# Altium integrated library Passive Components.IntLib: 149 symbols (part 1 of 2)
Pins are listed as number, name and electrical type; pins without a type are passive.

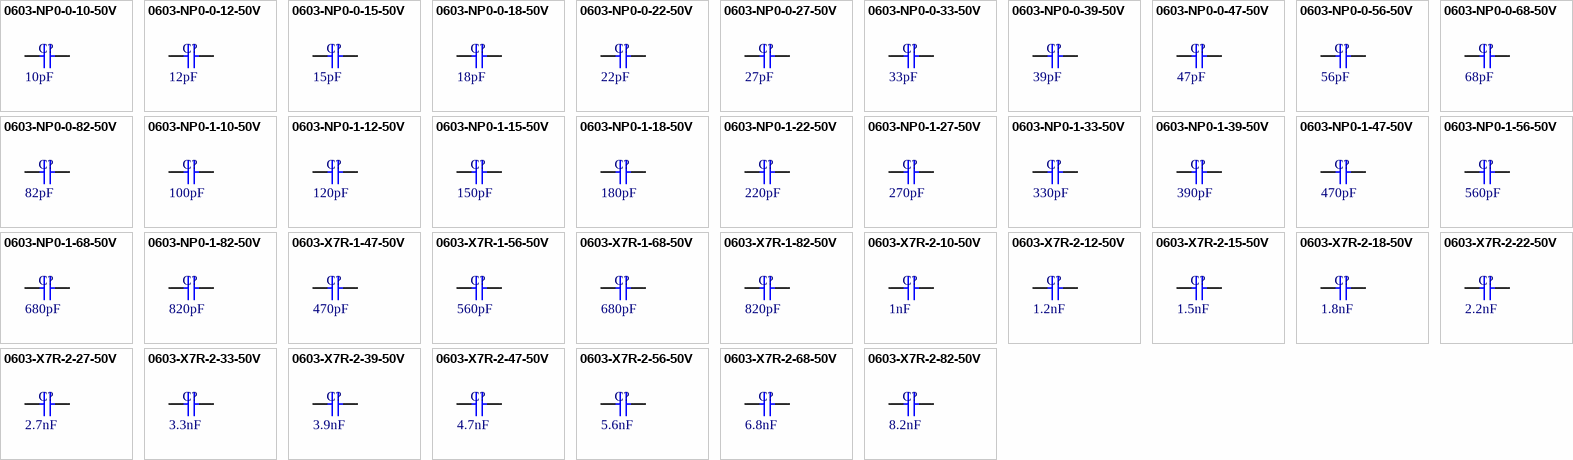
[diagram p0: symbols 0603-NP0-0-10-50V to 0603-X7R-2-82-50V]

## 0603-NP0-0-10-50V
designator C?, comment value 10pF  (hidden comment: Cap Ceramic)
CAP, CER, 0603, 10pF, 50V, NP0, 5%; ReferencePart: VJ0603A100JXACW1BC; Voltage: 50V
footprint CAP 0603_N (Chip Capacitor, Body 1.6x0.8mm, Height 0.55mm, IPC Medium Density)
footprint CAP 0603_L (Chip Capacitor, Body 1.6x0.8mm, Height 0.55mm, IPC High Density)
pins: 1, 2

## 0603-NP0-0-12-50V
designator C?, comment value 12pF  (hidden comment: Cap Ceramic)
CAP, CER, 0603, 12pF, 50V, NP0, 5%; ReferencePart: VJ0603A120JXACW1BC; Voltage: 50V
footprint CAP 0603_N (Chip Capacitor, Body 1.6x0.8mm, Height 0.55mm, IPC Medium Density)
footprint CAP 0603_L (Chip Capacitor, Body 1.6x0.8mm, Height 0.55mm, IPC High Density)
pins: 1, 2

## 0603-NP0-0-15-50V
designator C?, comment value 15pF  (hidden comment: Cap Ceramic)
CAP, CER, 0603, 15pF, 50V, NP0, 5%; ReferencePart: VJ0603A150JXACW1BC; Voltage: 50V
footprint CAP 0603_N (Chip Capacitor, Body 1.6x0.8mm, Height 0.55mm, IPC Medium Density)
footprint CAP 0603_L (Chip Capacitor, Body 1.6x0.8mm, Height 0.55mm, IPC High Density)
pins: 1, 2

## 0603-NP0-0-18-50V
designator C?, comment value 18pF  (hidden comment: Cap Ceramic)
CAP, CER, 0603, 18pF, 50V, NP0, 5%; ReferencePart: VJ0603A180JXACW1BC; Voltage: 50V
footprint CAP 0603_N (Chip Capacitor, Body 1.6x0.8mm, Height 0.55mm, IPC Medium Density)
footprint CAP 0603_L (Chip Capacitor, Body 1.6x0.8mm, Height 0.55mm, IPC High Density)
pins: 1, 2

## 0603-NP0-0-22-50V
designator C?, comment value 22pF  (hidden comment: Cap Ceramic)
CAP, CER, 0603, 22pF, 50V, NP0, 5%; ReferencePart: VJ0603A220JXACW1BC; Voltage: 50V
footprint CAP 0603_N (Chip Capacitor, Body 1.6x0.8mm, Height 0.55mm, IPC Medium Density)
footprint CAP 0603_L (Chip Capacitor, Body 1.6x0.8mm, Height 0.55mm, IPC High Density)
pins: 1, 2

## 0603-NP0-0-27-50V
designator C?, comment value 27pF  (hidden comment: Cap Ceramic)
CAP, CER, 0603, 27pF, 50V, NP0, 5%; ReferencePart: VJ0603A270JXACW1BC; Voltage: 50V
footprint CAP 0603_N (Chip Capacitor, Body 1.6x0.8mm, Height 0.55mm, IPC Medium Density)
footprint CAP 0603_L (Chip Capacitor, Body 1.6x0.8mm, Height 0.55mm, IPC High Density)
pins: 1, 2

## 0603-NP0-0-33-50V
designator C?, comment value 33pF  (hidden comment: Cap Ceramic)
CAP, CER, 0603, 33pF, 50V, NP0, 5%; ReferencePart: VJ0603A330JXACW1BC; Voltage: 50V
footprint CAP 0603_N (Chip Capacitor, Body 1.6x0.8mm, Height 0.55mm, IPC Medium Density)
footprint CAP 0603_L (Chip Capacitor, Body 1.6x0.8mm, Height 0.55mm, IPC High Density)
pins: 1, 2

## 0603-NP0-0-39-50V
designator C?, comment value 39pF  (hidden comment: Cap Ceramic)
CAP, CER, 0603, 39pF, 50V, NP0, 5%; ReferencePart: VJ0603A390JXACW1BC; Voltage: 50V
footprint CAP 0603_N (Chip Capacitor, Body 1.6x0.8mm, Height 0.55mm, IPC Medium Density)
footprint CAP 0603_L (Chip Capacitor, Body 1.6x0.8mm, Height 0.55mm, IPC High Density)
pins: 1, 2

## 0603-NP0-0-47-50V
designator C?, comment value 47pF  (hidden comment: Cap Ceramic)
CAP, CER, 0603, 47pF, 50V, NP0, 5%; ReferencePart: VJ0603A470JXACW1BC; Voltage: 50V
footprint CAP 0603_N (Chip Capacitor, Body 1.6x0.8mm, Height 0.55mm, IPC Medium Density)
footprint CAP 0603_L (Chip Capacitor, Body 1.6x0.8mm, Height 0.55mm, IPC High Density)
pins: 1, 2

## 0603-NP0-0-56-50V
designator C?, comment value 56pF  (hidden comment: Cap Ceramic)
CAP, CER, 0603, 56pF, 50V, NP0, 5%; ReferencePart: VJ0603A560JXACW1BC; Voltage: 50V
footprint CAP 0603_N (Chip Capacitor, Body 1.6x0.8mm, Height 0.55mm, IPC Medium Density)
footprint CAP 0603_L (Chip Capacitor, Body 1.6x0.8mm, Height 0.55mm, IPC High Density)
pins: 1, 2

## 0603-NP0-0-68-50V
designator C?, comment value 68pF  (hidden comment: Cap Ceramic)
CAP, CER, 0603, 68pF, 50V, NP0, 5%; ReferencePart: VJ0603A680JXACW1BC; Voltage: 50V
footprint CAP 0603_N (Chip Capacitor, Body 1.6x0.8mm, Height 0.55mm, IPC Medium Density)
footprint CAP 0603_L (Chip Capacitor, Body 1.6x0.8mm, Height 0.55mm, IPC High Density)
pins: 1, 2

## 0603-NP0-0-82-50V
designator C?, comment value 82pF  (hidden comment: Cap Ceramic)
CAP, CER, 0603, 82pF, 50V, NP0, 5%; ReferencePart: VJ0603A820JXACW1BC; Voltage: 50V
footprint CAP 0603_N (Chip Capacitor, Body 1.6x0.8mm, Height 0.55mm, IPC Medium Density)
footprint CAP 0603_L (Chip Capacitor, Body 1.6x0.8mm, Height 0.55mm, IPC High Density)
pins: 1, 2

## 0603-NP0-1-10-50V
designator C?, comment value 100pF  (hidden comment: Cap Ceramic)
CAP, CER, 0603, 100pF, 50V, NP0, 5%; ReferencePart: VJ0603A101JXACW1BC; Voltage: 50V
footprint CAP 0603_N (Chip Capacitor, Body 1.6x0.8mm, Height 0.55mm, IPC Medium Density)
footprint CAP 0603_L (Chip Capacitor, Body 1.6x0.8mm, Height 0.55mm, IPC High Density)
pins: 1, 2

## 0603-NP0-1-12-50V
designator C?, comment value 120pF  (hidden comment: Cap Ceramic)
CAP, CER, 0603, 120pF, 50V, NP0, 5%; ReferencePart: VJ0603A121JXACW1BC; Voltage: 50V
footprint CAP 0603_N (Chip Capacitor, Body 1.6x0.8mm, Height 0.55mm, IPC Medium Density)
footprint CAP 0603_L (Chip Capacitor, Body 1.6x0.8mm, Height 0.55mm, IPC High Density)
pins: 1, 2

## 0603-NP0-1-15-50V
designator C?, comment value 150pF  (hidden comment: Cap Ceramic)
CAP, CER, 0603, 150pF, 50V, NP0, 5%; ReferencePart: VJ0603A151JXACW1BC; Voltage: 50V
footprint CAP 0603_N (Chip Capacitor, Body 1.6x0.8mm, Height 0.55mm, IPC Medium Density)
footprint CAP 0603_L (Chip Capacitor, Body 1.6x0.8mm, Height 0.55mm, IPC High Density)
pins: 1, 2

## 0603-NP0-1-18-50V
designator C?, comment value 180pF  (hidden comment: Cap Ceramic)
CAP, CER, 0603, 180pF, 50V, NP0, 5%; ReferencePart: VJ0603A181JXACW1BC; Voltage: 50V
footprint CAP 0603_N (Chip Capacitor, Body 1.6x0.8mm, Height 0.55mm, IPC Medium Density)
footprint CAP 0603_L (Chip Capacitor, Body 1.6x0.8mm, Height 0.55mm, IPC High Density)
pins: 1, 2

## 0603-NP0-1-22-50V
designator C?, comment value 220pF  (hidden comment: Cap Ceramic)
CAP, CER, 0603, 220pF, 50V, NP0, 5%; ReferencePart: VJ0603A221JXACW1BC; Voltage: 50V
footprint CAP 0603_N (Chip Capacitor, Body 1.6x0.8mm, Height 0.55mm, IPC Medium Density)
footprint CAP 0603_L (Chip Capacitor, Body 1.6x0.8mm, Height 0.55mm, IPC High Density)
pins: 1, 2

## 0603-NP0-1-27-50V
designator C?, comment value 270pF  (hidden comment: Cap Ceramic)
CAP, CER, 0603, 270pF, 50V, NP0, 5%; ReferencePart: VJ0603A271JXACW1BC; Voltage: 50V
footprint CAP 0603_N (Chip Capacitor, Body 1.6x0.8mm, Height 0.55mm, IPC Medium Density)
footprint CAP 0603_L (Chip Capacitor, Body 1.6x0.8mm, Height 0.55mm, IPC High Density)
pins: 1, 2

## 0603-NP0-1-33-50V
designator C?, comment value 330pF  (hidden comment: Cap Ceramic)
CAP, CER, 0603, 330pF, 50V, NP0, 5%; ReferencePart: VJ0603A331JXACW1BC; Voltage: 50V
footprint CAP 0603_N (Chip Capacitor, Body 1.6x0.8mm, Height 0.55mm, IPC Medium Density)
footprint CAP 0603_L (Chip Capacitor, Body 1.6x0.8mm, Height 0.55mm, IPC High Density)
pins: 1, 2

## 0603-NP0-1-39-50V
designator C?, comment value 390pF  (hidden comment: Cap Ceramic)
CAP, CER, 0603, 390pF, 50V, NP0, 5%; ReferencePart: VJ0603A391JXACW1BC; Voltage: 50V
footprint CAP 0603_N (Chip Capacitor, Body 1.6x0.8mm, Height 0.55mm, IPC Medium Density)
footprint CAP 0603_L (Chip Capacitor, Body 1.6x0.8mm, Height 0.55mm, IPC High Density)
pins: 1, 2

## 0603-NP0-1-47-50V
designator C?, comment value 470pF  (hidden comment: Cap Ceramic)
CAP, CER, 0603, 470pF, 50V, NP0, 5%; ReferencePart: VJ0603A471JXACW1BC; Voltage: 50V
footprint CAP 0603_N (Chip Capacitor, Body 1.6x0.8mm, Height 0.55mm, IPC Medium Density)
footprint CAP 0603_L (Chip Capacitor, Body 1.6x0.8mm, Height 0.55mm, IPC High Density)
pins: 1, 2

## 0603-NP0-1-56-50V
designator C?, comment value 560pF  (hidden comment: Cap Ceramic)
CAP, CER, 0603, 560pF, 50V, NP0, 5%; ReferencePart: VJ0603A561JXACW1BC; Voltage: 50V
footprint CAP 0603_N (Chip Capacitor, Body 1.6x0.8mm, Height 0.55mm, IPC Medium Density)
footprint CAP 0603_L (Chip Capacitor, Body 1.6x0.8mm, Height 0.55mm, IPC High Density)
pins: 1, 2

## 0603-NP0-1-68-50V
designator C?, comment value 680pF  (hidden comment: Cap Ceramic)
CAP, CER, 0603, 680pF, 50V, NP0, 5%; ReferencePart: VJ0603A681JXACW1BC; Voltage: 50V
footprint CAP 0603_N (Chip Capacitor, Body 1.6x0.8mm, Height 0.55mm, IPC Medium Density)
footprint CAP 0603_L (Chip Capacitor, Body 1.6x0.8mm, Height 0.55mm, IPC High Density)
pins: 1, 2

## 0603-NP0-1-82-50V
designator C?, comment value 820pF  (hidden comment: Cap Ceramic)
CAP, CER, 0603, 820pF, 50V, NP0, 5%; ReferencePart: VJ0603A821JXACW1BC; Voltage: 50V
footprint CAP 0603_N (Chip Capacitor, Body 1.6x0.8mm, Height 0.55mm, IPC Medium Density)
footprint CAP 0603_L (Chip Capacitor, Body 1.6x0.8mm, Height 0.55mm, IPC High Density)
pins: 1, 2

## 0603-X7R-1-47-50V
designator C?, comment value 470pF  (hidden comment: Cap Ceramic)
CAP, CER, 0603, 470pF, 50V, X7R, 10%; ReferencePart: VJ0603Y471KXACW1BC; Voltage: 50V
footprint CAP 0603_N (Chip Capacitor, Body 1.6x0.8mm, Height 0.55mm, IPC Medium Density)
footprint CAP 0603_L (Chip Capacitor, Body 1.6x0.8mm, Height 0.55mm, IPC High Density)
pins: 1, 2

## 0603-X7R-1-56-50V
designator C?, comment value 560pF  (hidden comment: Cap Ceramic)
CAP, CER, 0603, 560pF, 50V, X7R, 10%; ReferencePart: VJ0603Y561KXACW1BC; Voltage: 50V
footprint CAP 0603_N (Chip Capacitor, Body 1.6x0.8mm, Height 0.55mm, IPC Medium Density)
footprint CAP 0603_L (Chip Capacitor, Body 1.6x0.8mm, Height 0.55mm, IPC High Density)
pins: 1, 2

## 0603-X7R-1-68-50V
designator C?, comment value 680pF  (hidden comment: Cap Ceramic)
CAP, CER, 0603, 680pF, 50V, X7R, 10%; ReferencePart: VJ0603Y681KXACW1BC; Voltage: 50V
footprint CAP 0603_N (Chip Capacitor, Body 1.6x0.8mm, Height 0.55mm, IPC Medium Density)
footprint CAP 0603_L (Chip Capacitor, Body 1.6x0.8mm, Height 0.55mm, IPC High Density)
pins: 1, 2

## 0603-X7R-1-82-50V
designator C?, comment value 820pF  (hidden comment: Cap Ceramic)
CAP, CER, 0603, 820pF, 50V, X7R, 10%; ReferencePart: VJ0603Y821KXACW1BC; Voltage: 50V
footprint CAP 0603_N (Chip Capacitor, Body 1.6x0.8mm, Height 0.55mm, IPC Medium Density)
footprint CAP 0603_L (Chip Capacitor, Body 1.6x0.8mm, Height 0.55mm, IPC High Density)
pins: 1, 2

## 0603-X7R-2-10-50V
designator C?, comment value 1nF  (hidden comment: Cap Ceramic)
CAP, CER, 0603, 1nF, 50V, X7R, 10%; ReferencePart: VJ0603Y102KXACW1BC; Voltage: 50V
footprint CAP 0603_N (Chip Capacitor, Body 1.6x0.8mm, Height 0.55mm, IPC Medium Density)
footprint CAP 0603_L (Chip Capacitor, Body 1.6x0.8mm, Height 0.55mm, IPC High Density)
pins: 1, 2

## 0603-X7R-2-12-50V
designator C?, comment value 1.2nF  (hidden comment: Cap Ceramic)
CAP, CER, 0603, 1.2nF, 50V, X7R, 10%; ReferencePart: VJ0603Y122KXACW1BC; Voltage: 50V
footprint CAP 0603_N (Chip Capacitor, Body 1.6x0.8mm, Height 0.55mm, IPC Medium Density)
footprint CAP 0603_L (Chip Capacitor, Body 1.6x0.8mm, Height 0.55mm, IPC High Density)
pins: 1, 2

## 0603-X7R-2-15-50V
designator C?, comment value 1.5nF  (hidden comment: Cap Ceramic)
CAP, CER, 0603, 1.5nF, 50V, X7R, 10%; ReferencePart: VJ0603Y152KXACW1BC; Voltage: 50V
footprint CAP 0603_N (Chip Capacitor, Body 1.6x0.8mm, Height 0.55mm, IPC Medium Density)
footprint CAP 0603_L (Chip Capacitor, Body 1.6x0.8mm, Height 0.55mm, IPC High Density)
pins: 1, 2

## 0603-X7R-2-18-50V
designator C?, comment value 1.8nF  (hidden comment: Cap Ceramic)
CAP, CER, 0603, 1.8nF, 50V, X7R, 10%; ReferencePart: VJ0603Y182KXACW1BC; Voltage: 50V
footprint CAP 0603_N (Chip Capacitor, Body 1.6x0.8mm, Height 0.55mm, IPC Medium Density)
footprint CAP 0603_L (Chip Capacitor, Body 1.6x0.8mm, Height 0.55mm, IPC High Density)
pins: 1, 2

## 0603-X7R-2-22-50V
designator C?, comment value 2.2nF  (hidden comment: Cap Ceramic)
CAP, CER, 0603, 2.2nF, 50V, X7R, 10%; ReferencePart: VJ0603Y222KXACW1BC; Voltage: 50V
footprint CAP 0603_N (Chip Capacitor, Body 1.6x0.8mm, Height 0.55mm, IPC Medium Density)
footprint CAP 0603_L (Chip Capacitor, Body 1.6x0.8mm, Height 0.55mm, IPC High Density)
pins: 1, 2

## 0603-X7R-2-27-50V
designator C?, comment value 2.7nF  (hidden comment: Cap Ceramic)
CAP, CER, 0603, 2.7nF, 50V, X7R, 10%; ReferencePart: VJ0603Y272KXACW1BC; Voltage: 50V
footprint CAP 0603_N (Chip Capacitor, Body 1.6x0.8mm, Height 0.55mm, IPC Medium Density)
footprint CAP 0603_L (Chip Capacitor, Body 1.6x0.8mm, Height 0.55mm, IPC High Density)
pins: 1, 2

## 0603-X7R-2-33-50V
designator C?, comment value 3.3nF  (hidden comment: Cap Ceramic)
CAP, CER, 0603, 3.3nF, 50V, X7R, 10%; ReferencePart: VJ0603Y332KXACW1BC; Voltage: 50V
footprint CAP 0603_N (Chip Capacitor, Body 1.6x0.8mm, Height 0.55mm, IPC Medium Density)
footprint CAP 0603_L (Chip Capacitor, Body 1.6x0.8mm, Height 0.55mm, IPC High Density)
pins: 1, 2

## 0603-X7R-2-39-50V
designator C?, comment value 3.9nF  (hidden comment: Cap Ceramic)
CAP, CER, 0603, 3.9nF, 50V, X7R, 10%; ReferencePart: VJ0603Y392KXACW1BC; Voltage: 50V
footprint CAP 0603_N (Chip Capacitor, Body 1.6x0.8mm, Height 0.55mm, IPC Medium Density)
footprint CAP 0603_L (Chip Capacitor, Body 1.6x0.8mm, Height 0.55mm, IPC High Density)
pins: 1, 2

## 0603-X7R-2-47-50V
designator C?, comment value 4.7nF  (hidden comment: Cap Ceramic)
CAP, CER, 0603, 4.7nF, 50V, X7R, 10%; ReferencePart: VJ0603Y472KXACW1BC; Voltage: 50V
footprint CAP 0603_N (Chip Capacitor, Body 1.6x0.8mm, Height 0.55mm, IPC Medium Density)
footprint CAP 0603_L (Chip Capacitor, Body 1.6x0.8mm, Height 0.55mm, IPC High Density)
pins: 1, 2

## 0603-X7R-2-56-50V
designator C?, comment value 5.6nF  (hidden comment: Cap Ceramic)
CAP, CER, 0603, 5.6nF, 50V, X7R, 10%; ReferencePart: VJ0603Y562KXACW1BC; Voltage: 50V
footprint CAP 0603_N (Chip Capacitor, Body 1.6x0.8mm, Height 0.55mm, IPC Medium Density)
footprint CAP 0603_L (Chip Capacitor, Body 1.6x0.8mm, Height 0.55mm, IPC High Density)
pins: 1, 2

## 0603-X7R-2-68-50V
designator C?, comment value 6.8nF  (hidden comment: Cap Ceramic)
CAP, CER, 0603, 6.8nF, 50V, X7R, 10%; ReferencePart: VJ0603Y682KXACW1BC; Voltage: 50V
footprint CAP 0603_N (Chip Capacitor, Body 1.6x0.8mm, Height 0.55mm, IPC Medium Density)
footprint CAP 0603_L (Chip Capacitor, Body 1.6x0.8mm, Height 0.55mm, IPC High Density)
pins: 1, 2

## 0603-X7R-2-82-50V
designator C?, comment value 8.2nF  (hidden comment: Cap Ceramic)
CAP, CER, 0603, 8.2nF, 50V, X7R, 10%; ReferencePart: VJ0603Y822KXACW1BC; Voltage: 50V
footprint CAP 0603_N (Chip Capacitor, Body 1.6x0.8mm, Height 0.55mm, IPC Medium Density)
footprint CAP 0603_L (Chip Capacitor, Body 1.6x0.8mm, Height 0.55mm, IPC High Density)
pins: 1, 2

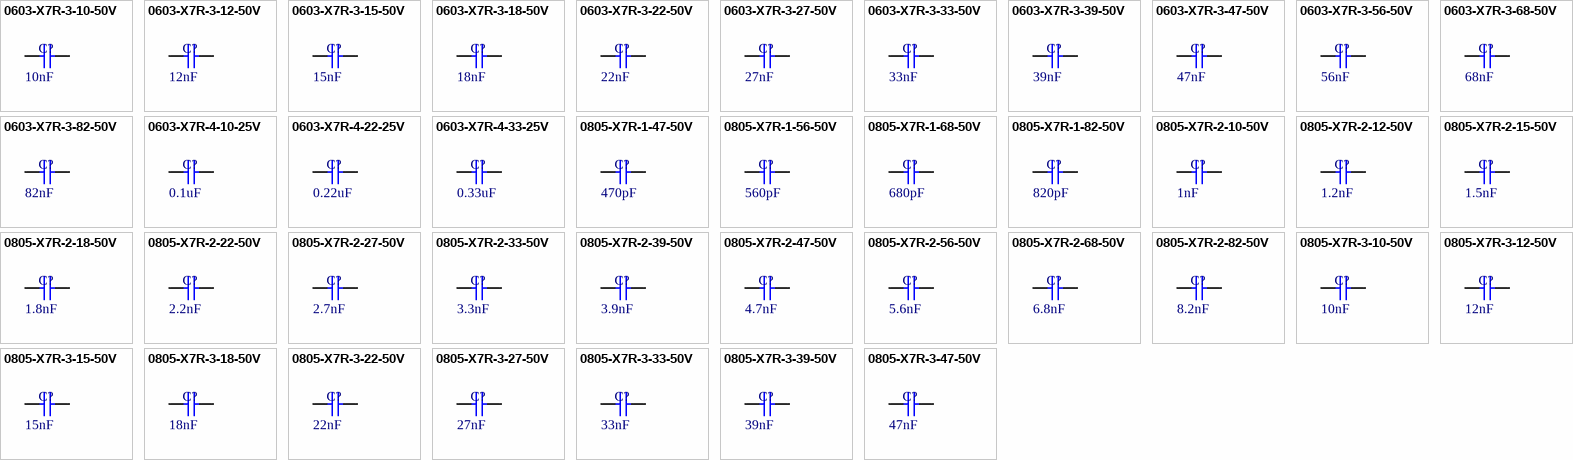
[diagram p1: symbols 0603-X7R-3-10-50V to 0805-X7R-3-47-50V]

## 0603-X7R-3-10-50V
designator C?, comment value 10nF  (hidden comment: Cap Ceramic)
CAP, CER, 0603, 10nF, 50V, X7R, 10%; ReferencePart: VJ0603Y103KXACW1BC; Voltage: 50V
footprint CAP 0603_N (Chip Capacitor, Body 1.6x0.8mm, Height 0.55mm, IPC Medium Density)
footprint CAP 0603_L (Chip Capacitor, Body 1.6x0.8mm, Height 0.55mm, IPC High Density)
pins: 1, 2

## 0603-X7R-3-12-50V
designator C?, comment value 12nF  (hidden comment: Cap Ceramic)
CAP, CER, 0603, 12nF, 50V, X7R, 10%; ReferencePart: VJ0603Y123KXACW1BC; Voltage: 50V
footprint CAP 0603_N (Chip Capacitor, Body 1.6x0.8mm, Height 0.55mm, IPC Medium Density)
footprint CAP 0603_L (Chip Capacitor, Body 1.6x0.8mm, Height 0.55mm, IPC High Density)
pins: 1, 2

## 0603-X7R-3-15-50V
designator C?, comment value 15nF  (hidden comment: Cap Ceramic)
CAP, CER, 0603, 15nF, 50V, X7R, 10%; ReferencePart: VJ0603Y153KXACW1BC; Voltage: 50V
footprint CAP 0603_N (Chip Capacitor, Body 1.6x0.8mm, Height 0.55mm, IPC Medium Density)
footprint CAP 0603_L (Chip Capacitor, Body 1.6x0.8mm, Height 0.55mm, IPC High Density)
pins: 1, 2

## 0603-X7R-3-18-50V
designator C?, comment value 18nF  (hidden comment: Cap Ceramic)
CAP, CER, 0603, 18nF, 50V, X7R, 10%; ReferencePart: VJ0603Y183KXACW1BC; Voltage: 50V
footprint CAP 0603_N (Chip Capacitor, Body 1.6x0.8mm, Height 0.55mm, IPC Medium Density)
footprint CAP 0603_L (Chip Capacitor, Body 1.6x0.8mm, Height 0.55mm, IPC High Density)
pins: 1, 2

## 0603-X7R-3-22-50V
designator C?, comment value 22nF  (hidden comment: Cap Ceramic)
CAP, CER, 0603, 22nF, 50V, X7R, 10%; ReferencePart: VJ0603Y223KXACW1BC; Voltage: 50V
footprint CAP 0603_N (Chip Capacitor, Body 1.6x0.8mm, Height 0.55mm, IPC Medium Density)
footprint CAP 0603_L (Chip Capacitor, Body 1.6x0.8mm, Height 0.55mm, IPC High Density)
pins: 1, 2

## 0603-X7R-3-27-50V
designator C?, comment value 27nF  (hidden comment: Cap Ceramic)
CAP, CER, 0603, 27nF, 50V, X7R, 10%; ReferencePart: VJ0603Y273KXACW1BC; Voltage: 50V
footprint CAP 0603_N (Chip Capacitor, Body 1.6x0.8mm, Height 0.55mm, IPC Medium Density)
footprint CAP 0603_L (Chip Capacitor, Body 1.6x0.8mm, Height 0.55mm, IPC High Density)
pins: 1, 2

## 0603-X7R-3-33-50V
designator C?, comment value 33nF  (hidden comment: Cap Ceramic)
CAP, CER, 0603, 33nF, 50V, X7R, 10%; ReferencePart: VJ0603Y333KXACW1BC; Voltage: 50V
footprint CAP 0603_N (Chip Capacitor, Body 1.6x0.8mm, Height 0.55mm, IPC Medium Density)
footprint CAP 0603_L (Chip Capacitor, Body 1.6x0.8mm, Height 0.55mm, IPC High Density)
pins: 1, 2

## 0603-X7R-3-39-50V
designator C?, comment value 39nF  (hidden comment: Cap Ceramic)
CAP, CER, 0603, 39nF, 50V, X7R, 10%; ReferencePart: VJ0603Y393KXACW1BC; Voltage: 50V
footprint CAP 0603_N (Chip Capacitor, Body 1.6x0.8mm, Height 0.55mm, IPC Medium Density)
footprint CAP 0603_L (Chip Capacitor, Body 1.6x0.8mm, Height 0.55mm, IPC High Density)
pins: 1, 2

## 0603-X7R-3-47-50V
designator C?, comment value 47nF  (hidden comment: Cap Ceramic)
CAP, CER, 0603, 47nF, 50V, X7R, 10%; ReferencePart: VJ0603Y473KXACW1BC; Voltage: 50V
footprint CAP 0603_N (Chip Capacitor, Body 1.6x0.8mm, Height 0.55mm, IPC Medium Density)
footprint CAP 0603_L (Chip Capacitor, Body 1.6x0.8mm, Height 0.55mm, IPC High Density)
pins: 1, 2

## 0603-X7R-3-56-50V
designator C?, comment value 56nF  (hidden comment: Cap Ceramic)
CAP, CER, 0603, 56nF, 50V, X7R, 10%; ReferencePart: VJ0603Y563KXACW1BC; Voltage: 50V
footprint CAP 0603_N (Chip Capacitor, Body 1.6x0.8mm, Height 0.55mm, IPC Medium Density)
footprint CAP 0603_L (Chip Capacitor, Body 1.6x0.8mm, Height 0.55mm, IPC High Density)
pins: 1, 2

## 0603-X7R-3-68-50V
designator C?, comment value 68nF  (hidden comment: Cap Ceramic)
CAP, CER, 0603, 68nF, 50V, X7R, 10%; ReferencePart: VJ0603Y683KXACW1BC; Voltage: 50V
footprint CAP 0603_N (Chip Capacitor, Body 1.6x0.8mm, Height 0.55mm, IPC Medium Density)
footprint CAP 0603_L (Chip Capacitor, Body 1.6x0.8mm, Height 0.55mm, IPC High Density)
pins: 1, 2

## 0603-X7R-3-82-50V
designator C?, comment value 82nF  (hidden comment: Cap Ceramic)
CAP, CER, 0603, 82nF, 50V, X7R, 10%; ReferencePart: VJ0603Y823KXACW1BC; Voltage: 50V
footprint CAP 0603_N (Chip Capacitor, Body 1.6x0.8mm, Height 0.55mm, IPC Medium Density)
footprint CAP 0603_L (Chip Capacitor, Body 1.6x0.8mm, Height 0.55mm, IPC High Density)
pins: 1, 2

## 0603-X7R-4-10-25V
designator C?, comment value 0.1uF  (hidden comment: Cap Ceramic)
CAP, CER, 0603, 0.1uF, 25V, X7R, 10%; ReferencePart: VJ0603Y104KXXCW1BC; Voltage: 25V
footprint CAP 0603_N (Chip Capacitor, Body 1.6x0.8mm, Height 0.55mm, IPC Medium Density)
footprint CAP 0603_L (Chip Capacitor, Body 1.6x0.8mm, Height 0.55mm, IPC High Density)
pins: 1, 2

## 0603-X7R-4-22-25V
designator C?, comment value 0.22uF  (hidden comment: Cap Ceramic)
CAP, CER, 0603, 0.22uF, 25V, X7R, 10%; ReferencePart: C1608X7R1E224K080AC; Voltage: 25V
footprint CAP 0603_N (Chip Capacitor, Body 1.6x0.8mm, Height 0.55mm, IPC Medium Density)
footprint CAP 0603_L (Chip Capacitor, Body 1.6x0.8mm, Height 0.55mm, IPC High Density)
pins: 1, 2

## 0603-X7R-4-33-25V
designator C?, comment value 0.33uF  (hidden comment: Cap Ceramic)
CAP, CER, 0603, 0.33uF, 25V, X7R, 10%; ReferencePart: C1608X7R1E334K080AC; Voltage: 25V
footprint CAP 0603_N (Chip Capacitor, Body 1.6x0.8mm, Height 0.55mm, IPC Medium Density)
footprint CAP 0603_L (Chip Capacitor, Body 1.6x0.8mm, Height 0.55mm, IPC High Density)
pins: 1, 2

## 0805-X7R-1-47-50V
designator C?, comment value 470pF  (hidden comment: Cap Ceramic)
CAP, CER, 0805, 470pF, 50V, X7R, 10%; ReferencePart: VJ0805A471JXACW1BC; Voltage: 50V
footprint CAP 0805_N (Chip Capacitor, Body 2.0x1.2mm, Height 0.75mm, IPC Medium Density)
footprint CAP 0805_L (Chip Capacitor, Body 2.0x1.2mm, Height 0.75mm, IPC High Density)
pins: 1, 2

## 0805-X7R-1-56-50V
designator C?, comment value 560pF  (hidden comment: Cap Ceramic)
CAP, CER, 0805, 560pF, 50V, X7R, 10%; ReferencePart: VJ0805A561JXACW1BC; Voltage: 50V
footprint CAP 0805_N (Chip Capacitor, Body 2.0x1.2mm, Height 0.75mm, IPC Medium Density)
footprint CAP 0805_L (Chip Capacitor, Body 2.0x1.2mm, Height 0.75mm, IPC High Density)
pins: 1, 2

## 0805-X7R-1-68-50V
designator C?, comment value 680pF  (hidden comment: Cap Ceramic)
CAP, CER, 0805, 680pF, 50V, X7R, 10%; ReferencePart: VJ0805A681JXACW1BC; Voltage: 50V
footprint CAP 0805_N (Chip Capacitor, Body 2.0x1.2mm, Height 0.75mm, IPC Medium Density)
footprint CAP 0805_L (Chip Capacitor, Body 2.0x1.2mm, Height 0.75mm, IPC High Density)
pins: 1, 2

## 0805-X7R-1-82-50V
designator C?, comment value 820pF  (hidden comment: Cap Ceramic)
CAP, CER, 0805, 820pF, 50V, X7R, 10%; ReferencePart: VJ0805A821JXACW1BC; Voltage: 50V
footprint CAP 0805_N (Chip Capacitor, Body 2.0x1.2mm, Height 0.75mm, IPC Medium Density)
footprint CAP 0805_L (Chip Capacitor, Body 2.0x1.2mm, Height 0.75mm, IPC High Density)
pins: 1, 2

## 0805-X7R-2-10-50V
designator C?, comment value 1nF  (hidden comment: Cap Ceramic)
CAP, CER, 0805, 1nF, 50V, X7R, 10%; ReferencePart: VJ0805Y102KXACW1BC; Voltage: 50V
footprint CAP 0805_L (Chip Capacitor, Body 2.0x1.2mm, Height 0.75mm, IPC High Density)
footprint CAP 0805_N (Chip Capacitor, Body 2.0x1.2mm, Height 0.75mm, IPC Medium Density)
pins: 1, 2

## 0805-X7R-2-12-50V
designator C?, comment value 1.2nF  (hidden comment: Cap Ceramic)
CAP, CER, 0805, 1.2nF, 50V, X7R, 10%; ReferencePart: VJ0805Y122KXACW1BC; Voltage: 50V
footprint CAP 0805_L (Chip Capacitor, Body 2.0x1.2mm, Height 0.75mm, IPC High Density)
footprint CAP 0805_N (Chip Capacitor, Body 2.0x1.2mm, Height 0.75mm, IPC Medium Density)
pins: 1, 2

## 0805-X7R-2-15-50V
designator C?, comment value 1.5nF  (hidden comment: Cap Ceramic)
CAP, CER, 0805, 1.5nF, 50V, X7R, 10%; ReferencePart: VJ0805Y152KXACW1BC; Voltage: 50V
footprint CAP 0805_L (Chip Capacitor, Body 2.0x1.2mm, Height 0.75mm, IPC High Density)
footprint CAP 0805_N (Chip Capacitor, Body 2.0x1.2mm, Height 0.75mm, IPC Medium Density)
pins: 1, 2

## 0805-X7R-2-18-50V
designator C?, comment value 1.8nF  (hidden comment: Cap Ceramic)
CAP, CER, 0805, 1.8nF, 50V, X7R, 10%; ReferencePart: VJ0805Y182KXACW1BC; Voltage: 50V
footprint CAP 0805_L (Chip Capacitor, Body 2.0x1.2mm, Height 0.75mm, IPC High Density)
footprint CAP 0805_N (Chip Capacitor, Body 2.0x1.2mm, Height 0.75mm, IPC Medium Density)
pins: 1, 2

## 0805-X7R-2-22-50V
designator C?, comment value 2.2nF  (hidden comment: Cap Ceramic)
CAP, CER, 0805, 2.2nF, 50V, X7R, 10%; ReferencePart: VJ0805Y222KXACW1BC; Voltage: 50V
footprint CAP 0805_L (Chip Capacitor, Body 2.0x1.2mm, Height 0.75mm, IPC High Density)
footprint CAP 0805_N (Chip Capacitor, Body 2.0x1.2mm, Height 0.75mm, IPC Medium Density)
pins: 1, 2

## 0805-X7R-2-27-50V
designator C?, comment value 2.7nF  (hidden comment: Cap Ceramic)
CAP, CER, 0805, 2.7nF, 50V, X7R, 10%; ReferencePart: VJ0805Y272KXACW1BC; Voltage: 50V
footprint CAP 0805_L (Chip Capacitor, Body 2.0x1.2mm, Height 0.75mm, IPC High Density)
footprint CAP 0805_N (Chip Capacitor, Body 2.0x1.2mm, Height 0.75mm, IPC Medium Density)
pins: 1, 2

## 0805-X7R-2-33-50V
designator C?, comment value 3.3nF  (hidden comment: Cap Ceramic)
CAP, CER, 0805, 3.3nF, 50V, X7R, 10%; ReferencePart: VJ0805Y332KXACW1BC; Voltage: 50V
footprint CAP 0805_L (Chip Capacitor, Body 2.0x1.2mm, Height 0.75mm, IPC High Density)
footprint CAP 0805_N (Chip Capacitor, Body 2.0x1.2mm, Height 0.75mm, IPC Medium Density)
pins: 1, 2

## 0805-X7R-2-39-50V
designator C?, comment value 3.9nF  (hidden comment: Cap Ceramic)
CAP, CER, 0805, 3.9nF, 50V, X7R, 10%; ReferencePart: VJ0805Y392KXACW1BC; Voltage: 50V
footprint CAP 0805_L (Chip Capacitor, Body 2.0x1.2mm, Height 0.75mm, IPC High Density)
footprint CAP 0805_N (Chip Capacitor, Body 2.0x1.2mm, Height 0.75mm, IPC Medium Density)
pins: 1, 2

## 0805-X7R-2-47-50V
designator C?, comment value 4.7nF  (hidden comment: Cap Ceramic)
CAP, CER, 0805, 4.7nF, 50V, X7R, 10%; ReferencePart: VJ0805Y472KXACW1BC; Voltage: 50V
footprint CAP 0805_L (Chip Capacitor, Body 2.0x1.2mm, Height 0.75mm, IPC High Density)
footprint CAP 0805_N (Chip Capacitor, Body 2.0x1.2mm, Height 0.75mm, IPC Medium Density)
pins: 1, 2

## 0805-X7R-2-56-50V
designator C?, comment value 5.6nF  (hidden comment: Cap Ceramic)
CAP, CER, 0805, 5.6nF, 50V, X7R, 10%; ReferencePart: VJ0805Y562KXACW1BC; Voltage: 50V
footprint CAP 0805_L (Chip Capacitor, Body 2.0x1.2mm, Height 0.75mm, IPC High Density)
footprint CAP 0805_N (Chip Capacitor, Body 2.0x1.2mm, Height 0.75mm, IPC Medium Density)
pins: 1, 2

## 0805-X7R-2-68-50V
designator C?, comment value 6.8nF  (hidden comment: Cap Ceramic)
CAP, CER, 0805, 6.8nF, 50V, X7R, 10%; ReferencePart: VJ0805Y682KXACW1BC; Voltage: 50V
footprint CAP 0805_L (Chip Capacitor, Body 2.0x1.2mm, Height 0.75mm, IPC High Density)
footprint CAP 0805_N (Chip Capacitor, Body 2.0x1.2mm, Height 0.75mm, IPC Medium Density)
pins: 1, 2

## 0805-X7R-2-82-50V
designator C?, comment value 8.2nF  (hidden comment: Cap Ceramic)
CAP, CER, 0805, 8.2nF, 50V, X7R, 10%; ReferencePart: VJ0805Y822KXACW1BC; Voltage: 50V
footprint CAP 0805_L (Chip Capacitor, Body 2.0x1.2mm, Height 0.75mm, IPC High Density)
footprint CAP 0805_N (Chip Capacitor, Body 2.0x1.2mm, Height 0.75mm, IPC Medium Density)
pins: 1, 2

## 0805-X7R-3-10-50V
designator C?, comment value 10nF  (hidden comment: Cap Ceramic)
CAP, CER, 0805, 10nF, 50V, X7R, 10%; ReferencePart: VJ0805Y103KXACW1BC; Voltage: 50V
footprint CAP 0805_L (Chip Capacitor, Body 2.0x1.2mm, Height 0.75mm, IPC High Density)
footprint CAP 0805_N (Chip Capacitor, Body 2.0x1.2mm, Height 0.75mm, IPC Medium Density)
pins: 1, 2

## 0805-X7R-3-12-50V
designator C?, comment value 12nF  (hidden comment: Cap Ceramic)
CAP, CER, 0805, 12nF, 50V, X7R, 10%; ReferencePart: VJ0805Y123KXACW1BC; Voltage: 50V
footprint CAP 0805_L (Chip Capacitor, Body 2.0x1.2mm, Height 0.75mm, IPC High Density)
footprint CAP 0805_N (Chip Capacitor, Body 2.0x1.2mm, Height 0.75mm, IPC Medium Density)
pins: 1, 2

## 0805-X7R-3-15-50V
designator C?, comment value 15nF  (hidden comment: Cap Ceramic)
CAP, CER, 0805, 15nF, 50V, X7R, 10%; ReferencePart: VJ0805Y153KXACW1BC; Voltage: 50V
footprint CAP 0805_L (Chip Capacitor, Body 2.0x1.2mm, Height 0.75mm, IPC High Density)
footprint CAP 0805_N (Chip Capacitor, Body 2.0x1.2mm, Height 0.75mm, IPC Medium Density)
pins: 1, 2

## 0805-X7R-3-18-50V
designator C?, comment value 18nF  (hidden comment: Cap Ceramic)
CAP, CER, 0805, 18nF, 50V, X7R, 10%; ReferencePart: VJ0805Y183KXACW1BC; Voltage: 50V
footprint CAP 0805_L (Chip Capacitor, Body 2.0x1.2mm, Height 0.75mm, IPC High Density)
footprint CAP 0805_N (Chip Capacitor, Body 2.0x1.2mm, Height 0.75mm, IPC Medium Density)
pins: 1, 2

## 0805-X7R-3-22-50V
designator C?, comment value 22nF  (hidden comment: Cap Ceramic)
CAP, CER, 0805, 22nF, 50V, X7R, 10%; ReferencePart: VJ0805Y223KXACW1BC; Voltage: 50V
footprint CAP 0805_L (Chip Capacitor, Body 2.0x1.2mm, Height 0.75mm, IPC High Density)
footprint CAP 0805_N (Chip Capacitor, Body 2.0x1.2mm, Height 0.75mm, IPC Medium Density)
pins: 1, 2

## 0805-X7R-3-27-50V
designator C?, comment value 27nF  (hidden comment: Cap Ceramic)
CAP, CER, 0805, 27nF, 50V, X7R, 10%; ReferencePart: VJ0805Y273KXACW1BC; Voltage: 50V
footprint CAP 0805_L (Chip Capacitor, Body 2.0x1.2mm, Height 0.75mm, IPC High Density)
footprint CAP 0805_N (Chip Capacitor, Body 2.0x1.2mm, Height 0.75mm, IPC Medium Density)
pins: 1, 2

## 0805-X7R-3-33-50V
designator C?, comment value 33nF  (hidden comment: Cap Ceramic)
CAP, CER, 0805, 33nF, 50V, X7R, 10%; ReferencePart: VJ0805Y333KXACW1BC; Voltage: 50V
footprint CAP 0805_L (Chip Capacitor, Body 2.0x1.2mm, Height 0.75mm, IPC High Density)
footprint CAP 0805_N (Chip Capacitor, Body 2.0x1.2mm, Height 0.75mm, IPC Medium Density)
pins: 1, 2

## 0805-X7R-3-39-50V
designator C?, comment value 39nF  (hidden comment: Cap Ceramic)
CAP, CER, 0805, 39nF, 50V, X7R, 10%; ReferencePart: VJ0805Y393KXACW1BC; Voltage: 50V
footprint CAP 0805_L (Chip Capacitor, Body 2.0x1.2mm, Height 0.75mm, IPC High Density)
footprint CAP 0805_N (Chip Capacitor, Body 2.0x1.2mm, Height 0.75mm, IPC Medium Density)
pins: 1, 2

## 0805-X7R-3-47-50V
designator C?, comment value 47nF  (hidden comment: Cap Ceramic)
CAP, CER, 0805, 47nF, 50V, X7R, 10%; ReferencePart: VJ0805Y473KXACW1BC; Voltage: 50V
footprint CAP 0805_L (Chip Capacitor, Body 2.0x1.2mm, Height 0.75mm, IPC High Density)
footprint CAP 0805_N (Chip Capacitor, Body 2.0x1.2mm, Height 0.75mm, IPC Medium Density)
pins: 1, 2

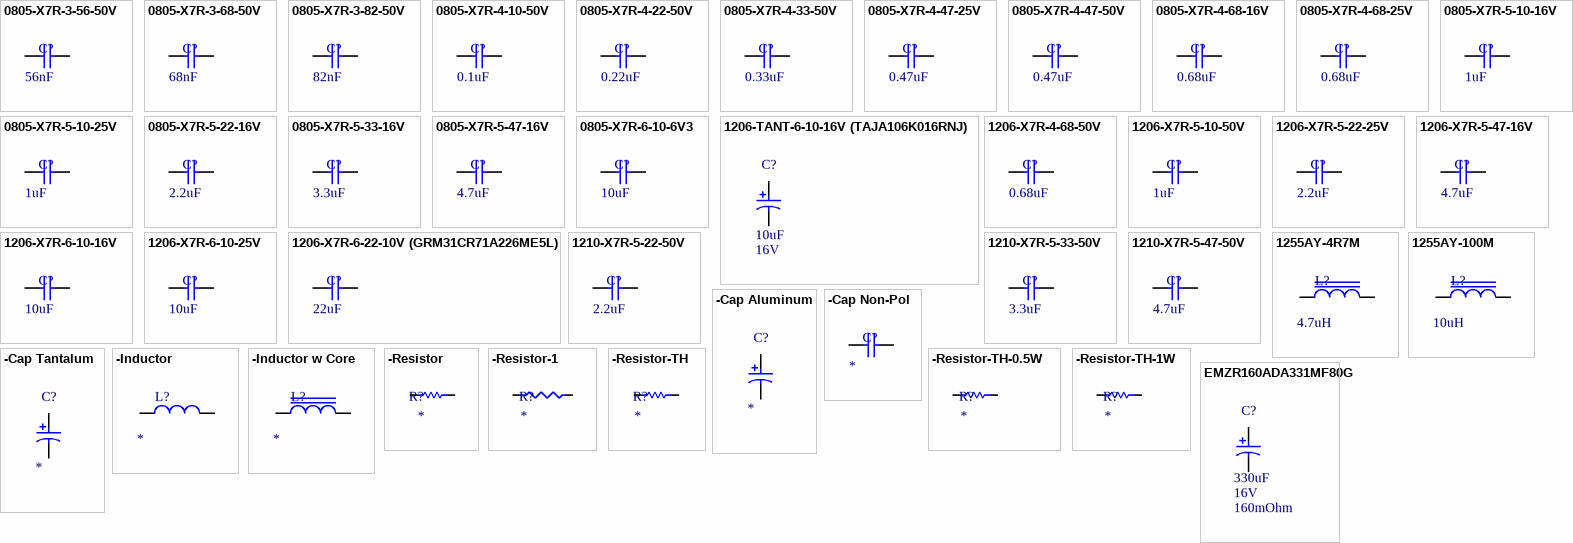
[diagram p2: symbols 0805-X7R-3-56-50V to EMZR160ADA331MF80G]

## 0805-X7R-3-56-50V
designator C?, comment value 56nF  (hidden comment: Cap Ceramic)
CAP, CER, 0805, 56nF, 50V, X7R, 10%; ReferencePart: VJ0805Y563KXACW1BC; Voltage: 50V
footprint CAP 0805_L (Chip Capacitor, Body 2.0x1.2mm, Height 0.75mm, IPC High Density)
footprint CAP 0805_N (Chip Capacitor, Body 2.0x1.2mm, Height 0.75mm, IPC Medium Density)
pins: 1, 2

## 0805-X7R-3-68-50V
designator C?, comment value 68nF  (hidden comment: Cap Ceramic)
CAP, CER, 0805, 68nF, 50V, X7R, 10%; ReferencePart: VJ0805Y683KXACW1BC; Voltage: 50V
footprint CAP 0805_L (Chip Capacitor, Body 2.0x1.2mm, Height 0.75mm, IPC High Density)
footprint CAP 0805_N (Chip Capacitor, Body 2.0x1.2mm, Height 0.75mm, IPC Medium Density)
pins: 1, 2

## 0805-X7R-3-82-50V
designator C?, comment value 82nF  (hidden comment: Cap Ceramic)
CAP, CER, 0805, 82nF, 50V, X7R, 10%; ReferencePart: VJ0805Y823KXACW1BC; Voltage: 50V
footprint CAP 0805_L (Chip Capacitor, Body 2.0x1.2mm, Height 0.75mm, IPC High Density)
footprint CAP 0805_N (Chip Capacitor, Body 2.0x1.2mm, Height 0.75mm, IPC Medium Density)
pins: 1, 2

## 0805-X7R-4-10-50V
designator C?, comment value 0.1uF  (hidden comment: Cap Ceramic)
CAP, CER, 0805, 0.1uF, 50V, X7R, 10%; ReferencePart: VJ0805Y104KXXCW1BC; Voltage: 50V
footprint CAP 0805_L (Chip Capacitor, Body 2.0x1.2mm, Height 0.75mm, IPC High Density)
footprint CAP 0805_N (Chip Capacitor, Body 2.0x1.2mm, Height 0.75mm, IPC Medium Density)
pins: 1, 2

## 0805-X7R-4-22-50V
designator C?, comment value 0.22uF  (hidden comment: Cap Ceramic)
CAP, CER, 0805, 0.22uF, 50V, X7R, 10%; ReferencePart: VJ0805Y224KXXCW1BC; Voltage: 50V
footprint CAP 0805_L (Chip Capacitor, Body 2.0x1.2mm, Height 0.75mm, IPC High Density)
footprint CAP 0805_N (Chip Capacitor, Body 2.0x1.2mm, Height 0.75mm, IPC Medium Density)
pins: 1, 2

## 0805-X7R-4-33-50V
designator C?, comment value 0.33uF  (hidden comment: Cap Ceramic)
CAP, CER, 0805, 0.33uF, 50V, X7R, 10%; ReferencePart: VJ0805Y334KXXCW1BC; Voltage: 50V
footprint CAP 0805_L (Chip Capacitor, Body 2.0x1.2mm, Height 0.75mm, IPC High Density)
footprint CAP 0805_N (Chip Capacitor, Body 2.0x1.2mm, Height 0.75mm, IPC Medium Density)
pins: 1, 2

## 0805-X7R-4-47-25V
designator C?, comment value 0.47uF  (hidden comment: Cap Ceramic)
CAP, CER, 0805, 0.47uF, 25V, X7R, 10%; ReferencePart: C2012X7R1E474K125AA; Voltage: 25V
footprint CAP 0805_N (Chip Capacitor, Body 2.0x1.2mm, Height 0.75mm, IPC Medium Density)
footprint CAP 0805_L (Chip Capacitor, Body 2.0x1.2mm, Height 0.75mm, IPC High Density)
pins: 1, 2

## 0805-X7R-4-47-50V
designator C?, comment value 0.47uF  (hidden comment: Cap Ceramic)
CAP, CER, 0805, 0.47uF, 50V, X7R, 10%; ReferencePart: VJ0805Y474KXXCW1BC; Voltage: 50V
footprint CAP 0805_L (Chip Capacitor, Body 2.0x1.2mm, Height 0.75mm, IPC High Density)
footprint CAP 0805_N (Chip Capacitor, Body 2.0x1.2mm, Height 0.75mm, IPC Medium Density)
pins: 1, 2

## 0805-X7R-4-68-16V
designator C?, comment value 0.68uF  (hidden comment: Cap Ceramic)
CAP, CER, 0805, 0.68uF, 16V, X7R, 10%; ReferencePart: C2012X7R1C684K125AB; Voltage: 16V
footprint CAP 0805_N (Chip Capacitor, Body 2.0x1.2mm, Height 0.75mm, IPC Medium Density)
footprint CAP 0805_L (Chip Capacitor, Body 2.0x1.2mm, Height 0.75mm, IPC High Density)
pins: 1, 2

## 0805-X7R-4-68-25V
designator C?, comment value 0.68uF  (hidden comment: Cap Ceramic)
CAP, CER, 0805, 0.68uF, 25V, X7R, 10%; ReferencePart: C2012X7R1E684K125AB; Voltage: 25V
footprint CAP 0805_N (Chip Capacitor, Body 2.0x1.2mm, Height 0.75mm, IPC Medium Density)
footprint CAP 0805_L (Chip Capacitor, Body 2.0x1.2mm, Height 0.75mm, IPC High Density)
pins: 1, 2

## 0805-X7R-5-10-16V
designator C?, comment value 1uF  (hidden comment: Cap Ceramic)
CAP, CER, 0805, 1uF, 16V, X7R, 10%; ReferencePart: C2012X7R1C105K125AA; Voltage: 16V
footprint CAP 0805_N (Chip Capacitor, Body 2.0x1.2mm, Height 0.75mm, IPC Medium Density)
footprint CAP 0805_L (Chip Capacitor, Body 2.0x1.2mm, Height 0.75mm, IPC High Density)
pins: 1, 2

## 0805-X7R-5-10-25V
designator C?, comment value 1uF  (hidden comment: Cap Ceramic)
CAP, CER, 0805, 1uF, 25V, X7R, 10%; ReferencePart: C2012X7R1E105K125AB; Voltage: 25V
footprint CAP 0805_N (Chip Capacitor, Body 2.0x1.2mm, Height 0.75mm, IPC Medium Density)
footprint CAP 0805_L (Chip Capacitor, Body 2.0x1.2mm, Height 0.75mm, IPC High Density)
pins: 1, 2

## 0805-X7R-5-22-16V
designator C?, comment value 2.2uF  (hidden comment: Cap Ceramic)
CAP, CER, 0805, 2.2uF, 16V, X7R, 10%; ReferencePart: C2012X7R1C225K125AB; Voltage: 16V
footprint CAP 0805_N (Chip Capacitor, Body 2.0x1.2mm, Height 0.75mm, IPC Medium Density)
footprint CAP 0805_L (Chip Capacitor, Body 2.0x1.2mm, Height 0.75mm, IPC High Density)
pins: 1, 2

## 0805-X7R-5-33-16V
designator C?, comment value 3.3uF  (hidden comment: Cap Ceramic)
CAP, CER, 0805, 3.3uF, 16V, X7R, 10%; ReferencePart: C2012X7R1C335K125AB; Voltage: 16V
footprint CAP 0805_N (Chip Capacitor, Body 2.0x1.2mm, Height 0.75mm, IPC Medium Density)
footprint CAP 0805_L (Chip Capacitor, Body 2.0x1.2mm, Height 0.75mm, IPC High Density)
pins: 1, 2

## 0805-X7R-5-47-16V
designator C?, comment value 4.7uF  (hidden comment: Cap Ceramic)
CAP, CER, 0805, 4.7uF, 16V, X7R, 10%; ReferencePart: CGA4J3X7R1C475K125AB; Voltage: 16V
footprint CAP 0805_N (Chip Capacitor, Body 2.0x1.2mm, Height 0.75mm, IPC Medium Density)
footprint CAP 0805_L (Chip Capacitor, Body 2.0x1.2mm, Height 0.75mm, IPC High Density)
pins: 1, 2

## 0805-X7R-6-10-6V3
designator C?, comment value 10uF  (hidden comment: Cap Ceramic)
CAP, CER, 0805, 10uF, 6.3V, X7R, 10%; ReferencePart: CGA4J1X7R0J106M125AC; Voltage: 6.3V
footprint CAP 0805_N (Chip Capacitor, Body 2.0x1.2mm, Height 0.75mm, IPC Medium Density)
footprint CAP 0805_L (Chip Capacitor, Body 2.0x1.2mm, Height 0.75mm, IPC High Density)
pins: 1, 2

## 1206-TANT-6-10-16V (TAJA106K016RNJ)
designator C?, comment value 10uF  Voltage: 16V  (hidden comment: Cap Tantalum)
CAP, TANT,  1206, 10uF, 16V, 10%; Supplier 1: Mouser; Supplier Part Number 1: 581-TAJA106K016R
footprint CAP EIA-A (3216) A1K2 (Molded Capacitor, 2-Leads, Body 3.20x1.60mm, IPC Medium Density)
pins: 1 A, 2 K

## 1206-X7R-4-68-50V
designator C?, comment value 0.68uF  (hidden comment: Cap Ceramic)
CAP, CER, 1206, 0.68uF, 50V, X7R, 10%; ReferencePart: C3216X7R1H684K160AA; Voltage: 50V
footprint CAP 1206_N (Chip Capacitor, Body 3.2x1.6mm, Height 0.75mm, IPC Medium Density)
footprint CAP 1206_L (Chip Capacitor, Body 3.2x1.6mm, Height 0.75mm, IPC High Density)
pins: 1, 2

## 1206-X7R-5-10-50V
designator C?, comment value 1uF  (hidden comment: Cap Ceramic)
CAP, CER, 1206, 1uF, 50V, X7R, 10%; ReferencePart: C3216X7R1H105K160AA; Voltage: 50V
footprint CAP 1206_L (Chip Capacitor, Body 3.2x1.6mm, Height 0.75mm, IPC High Density)
footprint CAP 1206_N (Chip Capacitor, Body 3.2x1.6mm, Height 0.75mm, IPC Medium Density)
pins: 1, 2

## 1206-X7R-5-22-25V
designator C?, comment value 2.2uF  (hidden comment: Cap Ceramic)
CAP, CER, 1206, 2.2uF, 25V, X7R, 10%; ReferencePart: C3216X7R1E225K160AA; Voltage: 25V
footprint CAP 1206_N (Chip Capacitor, Body 3.2x1.6mm, Height 0.75mm, IPC Medium Density)
footprint CAP 1206_L (Chip Capacitor, Body 3.2x1.6mm, Height 0.75mm, IPC High Density)
pins: 1, 2

## 1206-X7R-5-47-16V
designator C?, comment value 4.7uF  (hidden comment: Cap Ceramic)
CAP, CER, 1206, 4.7uF, 16V, X7R, 10%; ReferencePart: C3216X7R1C475K085AB; Voltage: 16V
footprint CAP 1206_N (Chip Capacitor, Body 3.2x1.6mm, Height 0.75mm, IPC Medium Density)
footprint CAP 1206_L (Chip Capacitor, Body 3.2x1.6mm, Height 0.75mm, IPC High Density)
pins: 1, 2

## 1206-X7R-6-10-16V
designator C?, comment value 10uF  (hidden comment: Cap Ceramic)
CAP, CER, 1206, 10uF, 16V, X7R, 10%; ReferencePart: C3216X7R1C106K160AC; Voltage: 16V
footprint CAP 1206_N (Chip Capacitor, Body 3.2x1.6mm, Height 0.75mm, IPC Medium Density)
footprint CAP 1206_L (Chip Capacitor, Body 3.2x1.6mm, Height 0.75mm, IPC High Density)
pins: 1, 2

## 1206-X7R-6-10-25V
designator C?, comment value 10uF  (hidden comment: Cap Ceramic)
CAP, CER, 1206, 10uF, 25V, X7R, 10%; ReferencePart: C3216X7R1E106K160AB; Voltage: 25V
footprint CAP 1206_L (Chip Capacitor, Body 3.2x1.6mm, Height 0.75mm, IPC High Density)
footprint CAP 1206_N (Chip Capacitor, Body 3.2x1.6mm, Height 0.75mm, IPC Medium Density)
pins: 1, 2

## 1206-X7R-6-22-10V (GRM31CR71A226ME5L)
designator C?, comment value 22uF  (hidden comment: Cap Ceramic)
CAP, CER, 1206, 22uF, 10V, X7R, 20%; Voltage: 10V; Supplier 1: Mouser; Supplier Part Number 1: 81-GRM31CR71A226ME5L
footprint CAP 1206_N (Chip Capacitor, Body 3.2x1.6mm, Height 0.75mm, IPC Medium Density)
footprint CAP 1206_L (Chip Capacitor, Body 3.2x1.6mm, Height 0.75mm, IPC High Density)
pins: 1, 2

## 1210-X7R-5-22-50V
designator C?, comment value 2.2uF  (hidden comment: Cap Ceramic)
CAP, CER, 1210, 2.2uF, 50V, X7R, 10%; ReferencePart: C3225X7R1H225K250AA; Voltage: 50V
footprint CAP 1210_L (Chip Capacitor, Body 3.2x2.5mm, Height 0.7mm, IPC High Density)
footprint CAP 1210_N (Chip Capacitor, Body 3.2x2.5mm, Height 0.7mm, IPC Medium Density)
pins: 1, 2

## 1210-X7R-5-33-50V
designator C?, comment value 3.3uF  (hidden comment: Cap Ceramic)
CAP, CER, 1210, 3.3uF, 50V, X7R, 10%; ReferencePart: C3225X7R1H335K250AA; Voltage: 50V
footprint CAP 1210_L (Chip Capacitor, Body 3.2x2.5mm, Height 0.7mm, IPC High Density)
footprint CAP 1210_N (Chip Capacitor, Body 3.2x2.5mm, Height 0.7mm, IPC Medium Density)
pins: 1, 2

## 1210-X7R-5-47-50V
designator C?, comment value 4.7uF  (hidden comment: Cap Ceramic)
CAP, CER, 1210, 4.7uF, 50V, X7R, 10%; ReferencePart: C3225X7R1H475K250AB; Voltage: 50V
footprint CAP 1210_L (Chip Capacitor, Body 3.2x2.5mm, Height 0.7mm, IPC High Density)
footprint CAP 1210_N (Chip Capacitor, Body 3.2x2.5mm, Height 0.7mm, IPC Medium Density)
pins: 1, 2

## 1255AY-4R7M
designator L?, comment value 4.7uH  (hidden comment: Inductor)
IND, SMD Power, 6045, 4.7uH, 4.5A, 20%; Isat: 6.0A; Irms: 4.5A; Supplier 1: Mouser; Supplier Part Number 1: 81-1255AY-4R7MP3
footprint IND 6045 (SMD Power Inductor, 2-Leads, Body 6.0x6.0mm)
pins: 1, 2

## 1255AY-100M
designator L?, comment value 10uH  (hidden comment: Inductor)
IND, SMD Power, 6045, 10uH, 3.1A, 20%; Isat: 4.1A; Irms: 3.1A; Supplier 1: Mouser; Supplier Part Number 1: 81-1255AY-100MP3
footprint IND 6045 (SMD Power Inductor, 2-Leads, Body 6.0x6.0mm)
pins: 1, 2

## -Cap Aluminum
designator C?
CAP, ALUM, A1K2; Voltage: *; ESR: *; Value: *
footprint SMD CAP-4X5.8MM-A1K2 (Aluminum Electrolytic Capacitor, Diameter 4mm, Height 6.1mm, Pitch 3.6mm)
footprint SMD CAP-6.3X7.7MM-A1K2 (Aluminum Electrolytic Capacitor, Diameter 6.3mm, Height 8mm, Pitch 5.4mm)
footprint SMD CAP-8X10MM-A1K2 (Aluminum Electrolytic Capacitor, Diameter 8mm, Height 10.8mm, Pitch 6.5mm)
footprint SMD CAP-10X10MM-A1K2 (Aluminum Electrolytic Capacitor, Diameter 10mm, Height 10.8mm, Pitch 8mm)
footprint SMD CAP-5X5.8MM-A1K2 (Aluminum Electrolytic Capacitor, Diameter 5mm, Height 6.1mm, Pitch 4.4mm)
footprint SMD CAP-3X5.5MM-A1K2 (Aluminum Electrolytic Capacitor, Diameter 3mm, Body 3.3x3.3mm, Height 5.5mm)
footprint TH CAP-5X11MM-A1K2 (Aluminum Electrolytic Capacitor, Diameter 5mm, Height 11mm, Pitch 2mm)
footprint TH CAP-6.3X11MM-A1K2 (Aluminum Electrolytic Capacitor, Diameter 6.3mm, Height 11mm, Pitch 2.5mm)
footprint TH CAP-8X11.5MM-A1K2 (Aluminum Electrolytic Capacitor, Diameter 8mm, Height 11.5mm, Pitch 3.5mm)
footprint TH CAP-10X16MM-A1K2 (Aluminum Electrolytic Capacitor, Diameter 10mm, Height 16mm, Pitch 5mm)
footprint TH CAP-12.5X25MM-A1K2 (Aluminum Electrolytic Capacitor, Diameter 12.5mm, Height 25mm, Pitch 5.0mm)
footprint TH CAP-18X20MM-A1K2 (Aluminum Electrolytic Capacitor, Diameter 18mm, Height 20mm, Pitch 7.5mm)
footprint TH CAP-8X20MM-A1K2 (Aluminum Electrolytic Capacitor, Diameter 8mm, Height 20mm, Pitch 3.5mm)
pins: 1 A, 2 K

## -Cap Non-Pol
designator C?
CAP, CER; Voltage: *; Value: *
footprint CAP 0603_N (Chip Capacitor, Body 1.6x0.8mm, Height 0.55mm, IPC Medium Density)
footprint CAP 0805_N (Chip Capacitor, Body 2.0x1.2mm, Height 0.75mm, IPC Medium Density)
footprint CAP 1206_N (Chip Capacitor, Body 3.2x1.6mm, Height 0.75mm, IPC Medium Density)
footprint CAP 1210_N (Chip Capacitor, Body 3.2x2.5mm, Height 0.7mm, IPC Medium Density)
footprint CAP 0603_L (Chip Capacitor, Body 1.6x0.8mm, Height 0.55mm, IPC High Density)
footprint CAP 0805_L (Chip Capacitor, Body 2.0x1.2mm, Height 0.75mm, IPC High Density)
footprint CAP 1206_L (Chip Capacitor, Body 3.2x1.6mm, Height 0.75mm, IPC High Density)
footprint CAP 1210_L (Chip Capacitor, Body 3.2x2.5mm, Height 0.7mm, IPC High Density)
pins: 1, 2

## -Cap Tantalum
designator C?
Cap Tantalum A1K2; Voltage: *; Value: *
footprint CAP EIA-A (3216) A1K2 (Molded Capacitor, 2-Leads, Body 3.20x1.60mm, IPC Medium Density)
footprint CAP EIA-B (3528) A1K2 (Molded Capacitor, 2-Leads, Body 3.50x2.80mm, IPC Medium Density)
footprint CAP EIA-C (6032) A1K2 (Molded Capacitor, 2-Leads, Body 6.00x3.20mm, IPC Medium Density)
footprint CAP EIA-D (7343) A1K2 (Molded Capacitor, 2-Leads, Body 7.30x4.30mm, IPC Medium Density)
pins: 1 A, 2 K

## -Inductor
designator L?
IND; Irms: *; Isat: *; Value: *
pins: 1, 2

## -Inductor w Core
designator L?
IND, SMD Power; Irms: *; Isat: *; Value: *
footprint IND 3015 (SMD Power Inductor, 2-Leads, Body 3.0x3.0mm)
footprint IND 4018 (SMD Power Inductor, 2-Leads, Body 4.0x4.0mm)
footprint IND 5040 (SMD Power Inductor, 2-Leads, Body 5.0x5.0mm)
footprint IND 6045 (SMD Power Inductor, 2-Leads, Body 6.0x6.0mm)
footprint IND 8040 (SMD Power Inductor, 2-Leads, Body 8.0x8.0mm)
pins: 1, 2

## -Resistor
designator R?
RES, SMD; Value: *
footprint RES 0603_N (Chip Resistor, Body 1.6x0.8mm, IPC Medium Density)
footprint RES 0805_N (Chip Resistor, Body 2.0x1.3mm, IPC Medium Density)
footprint RES 1206_N (Chip Resistor, Body 3.2x1.6mm, IPC Medium Density)
footprint RES 1210_N (Chip Resistor, Body 3.2x2.5mm, IPC Medium Density)
footprint RES 0603_L (Chip Resistor, Body 1.6x0.8mm, IPC High Density)
footprint RES 0805_L (Chip Resistor, Body 2.0x1.3mm, IPC High Density)
footprint RES 1206_L (Chip Resistor, Body 3.2x1.6mm, IPC High Density)
footprint RES 1210_L (Chip Resistor, Body 3.2x2.5mm, IPC High Density)
footprint RES 0805_N - ALT (Narrower Pad Width, Chip Resistor, Body 2.0x1.3mm, IPC Medium Density)
pins: 1, 2
1 alternate drawing of the same symbol

## -Resistor-1
designator R?
RES, SMD, Alternate; Value: *
footprint RES 0603_N (Chip Resistor, Body 1.6x0.8mm, IPC Medium Density)
footprint RES 0805_N (Chip Resistor, Body 2.0x1.3mm, IPC Medium Density)
footprint RES 1206_N (Chip Resistor, Body 3.2x1.6mm, IPC Medium Density)
footprint RES 1210_N (Chip Resistor, Body 3.2x2.5mm, IPC Medium Density)
footprint RES 0603_L (Chip Resistor, Body 1.6x0.8mm, IPC High Density)
footprint RES 0805_L (Chip Resistor, Body 2.0x1.3mm, IPC High Density)
footprint RES 1206_L (Chip Resistor, Body 3.2x1.6mm, IPC High Density)
footprint RES 1210_L (Chip Resistor, Body 3.2x2.5mm, IPC High Density)
pins: 1, 2
1 alternate drawing of the same symbol

## -Resistor-TH
designator R?
RES, Through Hole; Value: *
footprint TH RES-0.25W-10.16MM (Axial Through-Hole; Body 2.3x6.3mm; Pin Spacing 10.16mm)
footprint TH RES-0.25W-12.70MM (Axial Through-Hole; Body 2.3x6.3mm; Pin Spacing 12.70mm)
pins: 1, 2
1 alternate drawing of the same symbol

## -Resistor-TH-0.5W
designator R?
RES, Through Hole, 0.5W; Wattage: *; Value: *
footprint TH RES-0.5W-15.24MM (Axial Through-Hole; Body 3.68x9.5mm; Pin Spacing 15.24mm)
footprint TH RES-0.5W-17.78MM (Axial Through-Hole; Body 3.68x9.5mm; Pin Spacing 17.78mm)
pins: 1, 2
1 alternate drawing of the same symbol

## -Resistor-TH-1W
designator R?
RES, Through Hole, 1W; Wattage: *; Value: *
footprint TH RES-1W-22.68MM (Axial Through-Hole; Body 5.5x15.5mm; Pin Spacing 22.68mm)
footprint TH RES-1W-25.40MM (Axial Through-Hole; Body 5.5x15.5mm; Pin Spacing 25.40mm)
pins: 1, 2
1 alternate drawing of the same symbol

## EMZR160ADA331MF80G
designator C?, comment value 330uF  Voltage: 16V  ESR: 160mOhm  (hidden comment: Cap Aluminum)
CAP, ALUM, SMD, 6.3mm, 330uF, 16V, 160mOhm, 20%; Supplier 1: Mouser; Supplier Part Number 1: 661-EMZR160A331MF80G
footprint SMD CAP-6.3X7.7MM-A1K2 (Aluminum Electrolytic Capacitor, Diameter 6.3mm, Height 8mm, Pitch 5.4mm)
pins: 1 A, 2 K

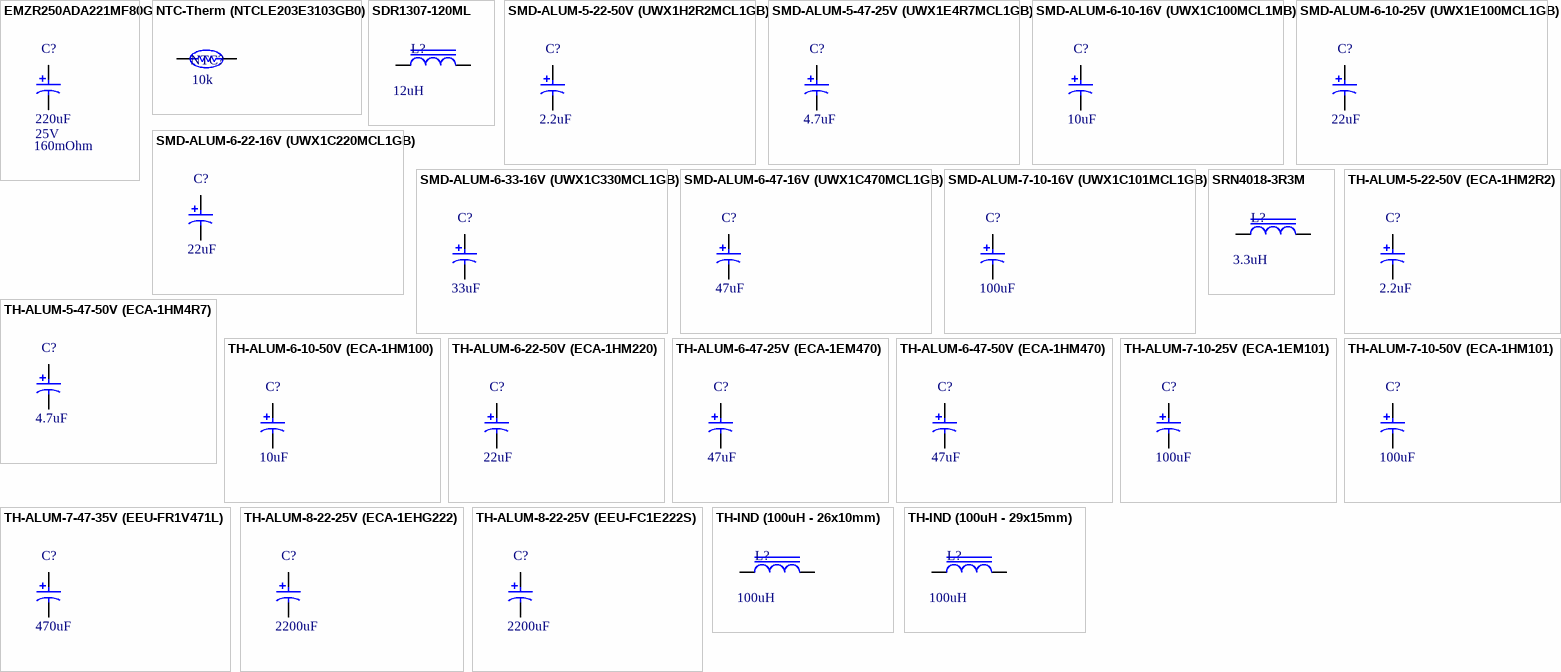
[diagram p3: symbols EMZR250ADA221MF80G to TH-IND (100uH - 29x15mm)]

## EMZR250ADA221MF80G
designator C?, comment value 220uF  Voltage: 25V  ESR: 160mOhm  (hidden comment: Cap Aluminum)
CAP, ALUM, SMD, 6.3mm, 220uF, 25V, 160mOhm, 20%; Supplier 1: Mouser; Supplier Part Number 1: 661-EMZR250A221MF80G
footprint SMD CAP-6.3X7.7MM-A1K2 (Aluminum Electrolytic Capacitor, Diameter 6.3mm, Height 8mm, Pitch 5.4mm)
pins: 1 A, 2 K

## NTC-Therm (NTCLE203E3103GB0)
designator NTC?, comment value 10k  (hidden comment: NTC)
NTC Thermistor; Supplier 1: Mouser; Supplier Part Number 1: 594-NTCLE203E3103GB0
footprint NTC TH (Axial Through-Hole; Pin Spacing 4mm)
pins: 1, 2
1 alternate drawing of the same symbol

## SDR1307-120ML
designator L?, comment value 12uH  (hidden comment: Inductor)
IND, SMD Power, 13x13x7mm, 12uH, 4.8A, 20%; Isat: 8A; Irms: 4.8A; Supplier 1: Mouser; Supplier Part Number 1: 652-SDR1307-120ML
footprint IND 130130X73N (SMD Wire Wound Inductor, 2-Leads, Body 13.00x13.00mm, IPC Medium Density)
pins: 1, 2

## SMD-ALUM-5-22-50V (UWX1H2R2MCL1GB)
designator C?, comment value 2.2uF  (hidden comment: Cap Aluminum)
CAP, ALUM, SMD, 4mm, 2.2uF, 50V, 20%; ReferencePart: UWX1H2R2MCL1GB; Voltage: 50V; ESR: *; Supplier 1: Mouser; Supplier Part Number 1: 647-UWX1H2R2MCL1
footprint SMD CAP-4X5.8MM-A1K2 (Aluminum Electrolytic Capacitor, Diameter 4mm, Height 6.1mm, Pitch 3.6mm)
pins: 1 A, 2 K

## SMD-ALUM-5-47-25V (UWX1E4R7MCL1GB)
designator C?, comment value 4.7uF  (hidden comment: Cap Aluminum)
CAP, ALUM, SMD, 4mm, 4.7uF, 25V, 20%; ReferencePart: UWX1E4R7MCL1GB; Voltage: 25V; ESR: *; Supplier 1: Mouser; Supplier Part Number 1: 647-UWX1E4R7MCL1
footprint SMD CAP-4X5.8MM-A1K2 (Aluminum Electrolytic Capacitor, Diameter 4mm, Height 6.1mm, Pitch 3.6mm)
pins: 1 A, 2 K

## SMD-ALUM-6-10-16V (UWX1C100MCL1MB)
designator C?, comment value 10uF  (hidden comment: Cap Aluminum)
CAP, ALUM, SMD, 4mm, 10uF, 16V, 20%; ReferencePart: UWX1C100MCL1MB; Voltage: 16V; ESR: *; Supplier 1: Mouser; Supplier Part Number 1: 647-UWX1C100MCL1MB
footprint SMD CAP-4X5.8MM-A1K2 (Aluminum Electrolytic Capacitor, Diameter 4mm, Height 6.1mm, Pitch 3.6mm)
pins: 1 A, 2 K

## SMD-ALUM-6-10-25V (UWX1E100MCL1GB)
designator C?, comment value 22uF  (hidden comment: Cap Aluminum)
CAP, ALUM, SMD, 5mm, 10uF, 25V, 20%; ReferencePart: UWX1E100MCL1GB; Voltage: 25V; ESR: *; Supplier 1: Mouser; Supplier Part Number 1: 647-UWX1E100MCL1
footprint SMD CAP-5X5.8MM-A1K2 (Aluminum Electrolytic Capacitor, Diameter 5mm, Height 6.1mm, Pitch 4.4mm)
pins: 1 A, 2 K

## SMD-ALUM-6-22-16V (UWX1C220MCL1GB)
designator C?, comment value 22uF  (hidden comment: Cap Aluminum)
CAP, ALUM, SMD, 5mm, 22uF, 16V, 20%; ReferencePart: UWX1C220MCL1GB; Voltage: 16V; ESR: *; Supplier 1: Mouser; Supplier Part Number 1: 647-UWX1C220MCL1
footprint SMD CAP-5X5.8MM-A1K2 (Aluminum Electrolytic Capacitor, Diameter 5mm, Height 6.1mm, Pitch 4.4mm)
pins: 1 A, 2 K

## SMD-ALUM-6-33-16V (UWX1C330MCL1GB)
designator C?, comment value 33uF  (hidden comment: Cap Aluminum)
CAP, ALUM, SMD, 6.3mm, 33uF, 16V, 20%; ReferencePart: UWX1C330MCL1GB; Voltage: 16V; ESR: *; Supplier 1: Mouser; Supplier Part Number 1: 647-UWX1C330MCL1
footprint SMD CAP-6.3X7.7MM-A1K2 (Aluminum Electrolytic Capacitor, Diameter 6.3mm, Height 8mm, Pitch 5.4mm)
pins: 1 A, 2 K

## SMD-ALUM-6-47-16V (UWX1C470MCL1GB)
designator C?, comment value 47uF  (hidden comment: Cap Aluminum)
CAP, ALUM, SMD, 6.3mm, 47uF, 16V, 20%; ReferencePart: UWX1C470MCL1GB; Voltage: 16V; ESR: *; Supplier 1: Mouser; Supplier Part Number 1: 647-UWX1C470MCL1
footprint SMD CAP-6.3X7.7MM-A1K2 (Aluminum Electrolytic Capacitor, Diameter 6.3mm, Height 8mm, Pitch 5.4mm)
pins: 1 A, 2 K

## SMD-ALUM-7-10-16V (UWX1C101MCL1GB)
designator C?, comment value 100uF  (hidden comment: Cap Aluminum)
CAP, ALUM, SMD, 6.3mm, 100uF, 16V, 20%; ReferencePart: UWX1C101MCL1GB; Voltage: 16V; ESR: *; Supplier 1: Mouser; Supplier Part Number 1: 647-UWX1C101MCL1
footprint SMD CAP-6.3X7.7MM-A1K2 (Aluminum Electrolytic Capacitor, Diameter 6.3mm, Height 8mm, Pitch 5.4mm)
pins: 1 A, 2 K

## SRN4018-3R3M
designator L?, comment value 3.3uH  (hidden comment: Inductor)
IND, SMD Power, 4018, 3.3uH, 2.2A, 20%; Isat: 2.3A; Irms: 2.2A; Supplier 1: Digi-Key; Supplier Part Number 1: SRN4018-3R3MDKR-ND
footprint IND 4018 (SMD Power Inductor, 2-Leads, Body 4.0x4.0mm)
pins: 1, 2